# EAGLE library part SCHIEBESCHALTER-2-WECHSLER-GEWINKELT (library switch)
RS Components - 5F Series Switch Dual Pole switch, 2 states, 90° angled
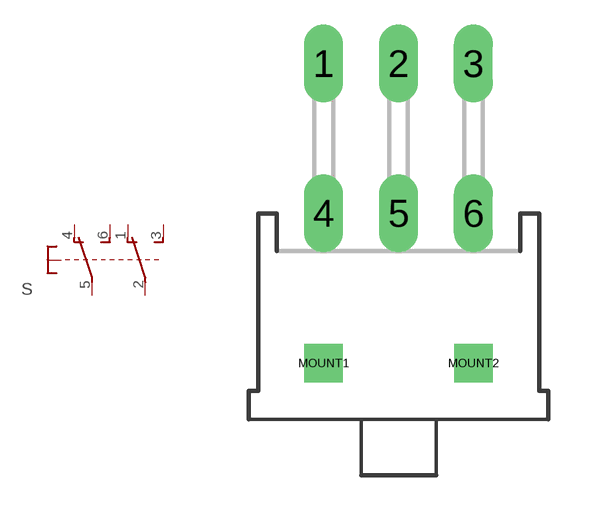
[diagram p0: symbol with the pads of DPDT-M6; footprint DPDT-M6]

Designator prefix S

## SCHIEBESCHALTER-2-WECHSLER-GEWINKELT (MANUFACTURER: RS-Components; ORDERNR: 429-492; PARTNR: 5FD1S102M6QE)  [DPDT-M6]
1  O1  pas
2  P1  pas
3  S1  pas
4  O2  pas
5  P2  pas
6  S2  pas

## Footprint DPDT-M6 (pad centres in mm)
RS Components - 5F Series Switch switch 2 states, 6 pins, throughhole, 90°angled, RM254
drill 0.813 long: 1 -2.54,2.54; 2 0,2.54; 3 2.54,2.54; 4 -2.54,-2.54; 5 0,-2.54; 6 2.54,-2.54
drill 0.8 square: MOUNT1 -2.54,-7.62; MOUNT2 2.54,-7.62